# EAGLE library part 20POS-*MM-? (library con-wurth-board-header)
Wurth Elektronik WR-BHD Male Box Headers
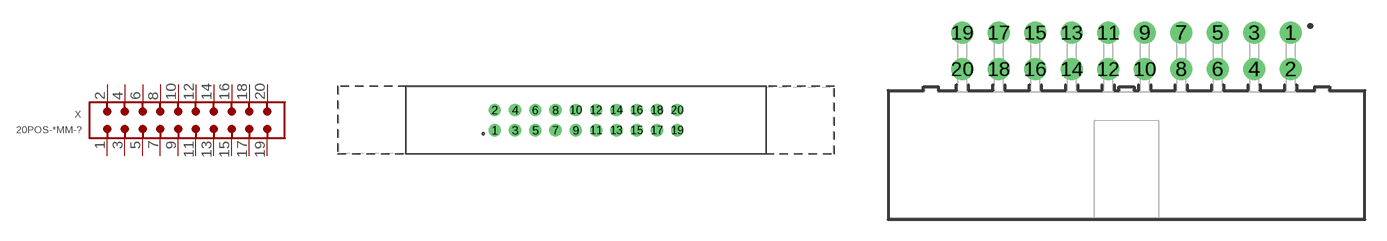
[diagram p6: symbol with the pads of 61202022821; footprints 61202022821, 612020235221]

Designator prefix X

## 20POS-2.54MM-61202022821 (CONTACT-RESISTANCE: 20mOhm; DATASHEET-URL: https://www.we-online.com/redexpert/spec/61202022821?ae; GENDER: Male; IR: 3A; LENGTH: 44.9mm; MOUNT: THT; PACKAGING: Tray; PART-NUMBER: 61202022821; PINS: 20; PITCH: 2.54 mm; TYPE: Straight; VALUE: 61202022821; WORKING-VOLTAGE: 250V(AC))  [61202022821]
1  1  pas
2  2  pas
3  3  pas
4  4  pas
5  5  pas
6  6  pas
7  7  pas
8  8  pas
9  9  pas
10  10  pas
11  11  pas
12  12  pas
13  13  pas
14  14  pas
15  15  pas
16  16  pas
17  17  pas
18  18  pas
19  19  pas
20  20  pas

## 20POS-2.54MM-612020235221 (CONTACT-RESISTANCE: 20mOhm; DATASHEET-URL: https://www.we-online.com/redexpert/spec/612020235221?ae; GENDER: Male; IR: 3A; LENGTH: 33mm; MOUNT: THT; PACKAGING: Tray; PART-NUMBER: 612020235221; PINS: 20; PITCH: 2.54 mm; TYPE: Angled; VALUE: 612020235221; WORKING-VOLTAGE: 250V(AC))  [612020235221]
Pads as for 61202022821

## 20POS-1.27MM-62702021621 (CONTACT-RESISTANCE: 20mOhm; DATASHEET-URL: https://www.we-online.com/redexpert/spec/62702021621?ae; GENDER: Male; IR: 1A; LENGTH: 19.05mm; MOUNT: THT; PART-NUMBER: 62702021621; PINS: 20; PITCH: 1.27 mm; TYPE: Straight; VALUE: 62702021621; WORKING-VOLTAGE: 50V(AC))  [62702021621]
Pads as for 61202022821

## 20POS-1.27MM-62702020621 (CONTACT-RESISTANCE: 20mOhm; DATASHEET-URL: https://www.we-online.com/redexpert/spec/62702020621?ae; GENDER: Male; IR: 1A; LENGTH: 19.05mm; MOUNT: SMT; PART-NUMBER: 62702020621; PINS: 20; PITCH: 1.27 mm; TYPE: Straight; VALUE: 62702020621; WORKING-VOLTAGE: 50V(AC))  [62702020621]
Pads as for 61202022821

## 20POS-2.54MM-61202020621 (CONTACT-RESISTANCE: 20mOhm; DATASHEET-URL: https://www.we-online.com/redexpert/spec/61202020621?ae; GENDER: Male; IR: 3A; LENGTH: 33.2mm; MOUNT: SMT; PACKAGING: Tube; PART-NUMBER: 61202020621; PINS: 20; PITCH: 2.54 mm; TYPE: Straight; VALUE: 61202020621; WORKING-VOLTAGE: 250V(AC))  [61202020621]
Pads as for 61202022821

## 20POS-2.54MM-612020235121 (CONTACT-RESISTANCE: 20mOhm; DATASHEET-URL: https://www.we-online.com/redexpert/spec/612020235121?ae; GENDER: Male; IR: 3A; LENGTH: 33mm; MOUNT: THT; PACKAGING: Tray; PART-NUMBER: 612020235121; PINS: 20; PITCH: 2.54 mm; TYPE: Straight; VALUE: 612020235121; WORKING-VOLTAGE: 250V(AC))  [612020235121]
Pads as for 61202022821

## 20POS-2.54MM-61202022121 (CONTACT-RESISTANCE: 20mOhm; DATASHEET-URL: https://www.we-online.com/redexpert/spec/61202022121?ae; GENDER: Male; IR: 3A; LENGTH: 44.9mm; MOUNT: THT; PACKAGING: Tray; PART-NUMBER: 61202022121; PINS: 20; PITCH: 2.54 mm; TYPE: Angled; VALUE: 61202022121; WORKING-VOLTAGE: 250V(AC))  [61202022121]
Pads as for 61202022821

## 20POS-2.00MM-62502021621 (CONTACT-RESISTANCE: 20mOhm; DATASHEET-URL: https://www.we-online.com/redexpert/spec/62502021621?ae; GENDER: Male; IR: 2A; LENGTH: 27.2mm; MOUNT: THT; PACKAGING: Tray; PART-NUMBER: 62502021621; PINS: 20; PITCH: 2.00 mm; TYPE: Straight; VALUE: 62502021621; WORKING-VOLTAGE: 250V(AC))  [62502021621]
Pads as for 61202022821

## 20POS-2.54MM-61202022921 (CONTACT-RESISTANCE: 20mOhm; DATASHEET-URL: https://www.we-online.com/redexpert/spec/61202022921?ae; GENDER: Male; IR: 3A; LENGTH: 44.9mm; MOUNT: THT; PACKAGING: Tray; PART-NUMBER: 61202022921; PINS: 20; PITCH: 2.54 mm; TYPE: Angled; VALUE: 61202022921; WORKING-VOLTAGE: 250V(AC))  [61202022921]
Pads as for 61202022821

## 20POS-2.00MM-62502022021 (CONTACT-RESISTANCE: 20mOhm; DATASHEET-URL: https://www.we-online.com/redexpert/spec/62502022021?ae; GENDER: Male; IR: 2A; LENGTH: 35.7mm; MOUNT: THT; PACKAGING: Tray; PART-NUMBER: 62502022021; PINS: 20; PITCH: 2.00 mm; TYPE: Straight; VALUE: 62502022021; WORKING-VOLTAGE: 250V(AC))  [62502022021]
Pads as for 61202022821

## 20POS-2.00MM-62502022323 (CONTACT-RESISTANCE: 20mOhm; DATASHEET-URL: https://www.we-online.com/redexpert/spec/62502022323?ae; GENDER: Transition; IR: 1A; LENGTH: 24.1mm; MOUNT: THT; PACKAGING: Tray; PART-NUMBER: 62502022323; PINS: 20; PITCH: 2.00 mm; TYPE: Straight; VALUE: 62502022323; WORKING-VOLTAGE: 250V(AC))  [62502022323]
Pads as for 61202022821

## 20POS-2.00MM-62502022121 (CONTACT-RESISTANCE: 20mOhm; DATASHEET-URL: https://www.we-online.com/redexpert/spec/62502022121?ae; GENDER: Male; IR: 2A; LENGTH: 35.7mm; MOUNT: THT; PACKAGING: Tray; PART-NUMBER: 62502022121; PINS: 20; PITCH: 2.00 mm; TYPE: Angled; VALUE: 62502022121; WORKING-VOLTAGE: 250V(AC))  [62502022121]
Pads as for 61202022821

## 20POS-2.54MM-61202021721 (CONTACT-RESISTANCE: 20mOhm; DATASHEET-URL: https://www.we-online.com/redexpert/spec/61202021721?ae; GENDER: Male; IR: 3A; LENGTH: 38.14mm; MOUNT: THT; PACKAGING: Tray; PART-NUMBER: 61202021721; PINS: 20; PITCH: 2.54 mm; TYPE: Angled; VALUE: 61202021721; WORKING-VOLTAGE: 250V(AC))  [61202021721]
Pads as for 61202022821

## 20POS-2.54MM-61202021621 (CONTACT-RESISTANCE: 20mOhm; DATASHEET-URL: https://www.we-online.com/redexpert/spec/61202021621?ae; GENDER: Male; IR: 3A; LENGTH: 33.06mm; MOUNT: THT; PACKAGING: Tray; PART-NUMBER: 61202021621; PINS: 20; PITCH: 2.54 mm; TYPE: Straight; VALUE: 61202021621; WORKING-VOLTAGE: 250V(AC))  [61202021621]
Pads as for 61202022821

## 20POS-2.00MM-62502021721 (CONTACT-RESISTANCE: 20mOhm; DATASHEET-URL: https://www.we-online.com/redexpert/spec/62502021721?ae; GENDER: Male; IR: 2A; LENGTH: 27.25mm; MOUNT: THT; PACKAGING: Tray; PART-NUMBER: 62502021721; PINS: 20; PITCH: 2.00 mm; TYPE: Angled; VALUE: 62502021721; WORKING-VOLTAGE: 250V(AC))  [62502021721]
Pads as for 61202022821

## 20POS-2.54MM-61202022021 (CONTACT-RESISTANCE: 20mOhm; DATASHEET-URL: https://www.we-online.com/redexpert/spec/61202022021?ae; GENDER: Male; IR: 3A; LENGTH: 44.9mm; MOUNT: THT; PACKAGING: Tray; PART-NUMBER: 61202022021; PINS: 20; PITCH: 2.54 mm; TYPE: Straight; VALUE: 61202022021; WORKING-VOLTAGE: 250V(AC))  [61202022021]
Pads as for 61202022821

## 20POS-2.54MM-61202022323 (CONTACT-RESISTANCE: 20mOhm; DATASHEET-URL: https://www.we-online.com/redexpert/spec/61202022323?ae; GENDER: Transition; IR: 1A; LENGTH: 30.85mm; MOUNT: THT; PACKAGING: Tray; PART-NUMBER: 61202022323; PINS: 20; PITCH: 2.54 mm; TYPE: Straight; VALUE: 61202022323; WORKING-VOLTAGE: 250V(AC))  [61202022323]
Pads as for 61202022821

## 20POS-1.27MM-62702021721 (CONTACT-RESISTANCE: 20mOhm; DATASHEET-URL: https://www.we-online.com/redexpert/spec/62702021721?ae; GENDER: Male; IR: 1A; LENGTH: 19.05mm; MOUNT: THT; PART-NUMBER: 62702021721; PINS: 20; PITCH: 1.27 mm; TYPE: Angled; VALUE: 62702021721; WORKING-VOLTAGE: 50V(AC))  [62702021721]
Pads as for 61202022821

## 20POS-1.27MM-62732020621 (CONTACT-RESISTANCE: 20mOhm; DATASHEET-URL: https://www.we-online.com/redexpert/spec/62732020621?ae; GENDER: Male; IR: 1A; LENGTH: 19.05mm; MOUNT: SMT; PART-NUMBER: 62732020621; PINS: 20; PITCH: 1.27 mm; TYPE: Straight; VALUE: 62732020621; WORKING-VOLTAGE: 50V(AC))  [62732020621]
Pads as for 61202022821

## 20POS-2.00MM-62532020621 (CONTACT-RESISTANCE: 20mOhm; DATASHEET-URL: https://www.we-online.com/redexpert/spec/62532020621?ae; GENDER: Male; IR: 2A; LENGTH: 27.25mm; MOUNT: SMT; PACKAGING: Tape and Reel with Cap; PART-NUMBER: 62532020621; PINS: 20; PITCH: 2.00 mm; TYPE: Straight; VALUE: 62532020621; WORKING-VOLTAGE: 250V(AC))  [62532020621]
Pads as for 61202022821

## 20POS-2.54MM-61232020621 (CONTACT-RESISTANCE: 20mOhm; DATASHEET-URL: https://www.we-online.com/redexpert/spec/61232020621?ae; GENDER: Male; IR: 3A; LENGTH: 33.05mm; MOUNT: SMT; PACKAGING: Tape and Reel with Cap; PART-NUMBER: 61232020621; PINS: 20; PITCH: 2.54 mm; TYPE: Straight; VALUE: 61232020621; WORKING-VOLTAGE: 250V(AC))  [61232020621]
Pads as for 61202022821

## Footprint 61202022821 (pad centres in mm)
WR-BHD 2.54 mm Male Box Header with long lever,20 Pins
drill 1.02: 1 -11.43,-1.27; 2 -11.43,1.27; 3 -8.89,-1.27; 4 -8.89,1.27; 5 -6.35,-1.27; 6 -6.35,1.27; 7 -3.81,-1.27; 8 -3.81,1.27; 9 -1.27,-1.27; 10 -1.27,1.27; 11 1.27,-1.27; 12 1.27,1.27; 13 3.81,-1.27; 14 3.81,1.27; 15 6.35,-1.27; 16 6.35,1.27; 17 8.89,-1.27; 18 8.89,1.27; 19 11.43,-1.27; 20 11.43,1.27

## Footprint 612020235221 (pad centres in mm)
WR-BHD 2.54 mm Male Angled Box Header High Temperature, 20 Pins
drill 1.02: 1 11.43,8.54; 2 11.43,6; 3 8.89,8.54; 4 8.89,6; 5 6.35,8.54; 6 6.35,6; 7 3.81,8.54; 8 3.81,6; 9 1.27,8.54; 10 1.27,6; 11 -1.27,8.54; 12 -1.27,6; 13 -3.81,8.54; 14 -3.81,6; 15 -6.35,8.54; 16 -6.35,6; 17 -8.89,8.54; 18 -8.89,6; 19 -11.43,8.54; 20 -11.43,6

## Footprint 62702021621 (pad centres in mm)
WR-BHD 1.27mm Male THT Box Header Straight, 20Pins
drill 0.7 pad 1.05: 1 -5.715,-0.635; 2 -5.715,0.635; 3 -4.445,-0.635; 4 -4.445,0.635; 5 -3.175,-0.635; 6 -3.175,0.635; 7 -1.905,-0.635; 8 -1.905,0.635; 9 -0.635,-0.635; 10 -0.635,0.635; 11 0.635,-0.635; 12 0.635,0.635; 13 1.905,-0.635; 14 1.905,0.635; 15 3.175,-0.635; 16 3.175,0.635; 17 4.445,-0.635; 18 4.445,0.635; 19 5.715,-0.635; 20 5.715,0.635

## Footprint 62702020621 (pad centres in mm)
WR-BHD 1.27 mm Male SMT Box Header Pitch: 1.27mm, 20pins, SMT
smd 0.65 x 2.76: 1 -5.715,-2.02; 2 -5.715,2.02; 3 -4.445,-2.02; 4 -4.445,2.02; 5 -3.175,-2.02; 6 -3.175,2.02; 7 -1.905,-2.02; 8 -1.905,2.02; 9 -0.635,-2.02; 10 -0.635,2.02; 11 0.635,-2.02; 12 0.635,2.02; 13 1.905,-2.02; 14 1.905,2.02; 15 3.175,-2.02; 16 3.175,2.02; 17 4.445,-2.02; 18 4.445,2.02; 19 5.715,-2.02; 20 5.715,2.02

## Footprint 61202020621 (pad centres in mm)
WR-BHD 2.54 mm Male SMT Box Header,20 pins
smd 1 x 3.75: 1 -11.43,-3.375; 2 -11.43,3.375; 3 -8.89,-3.375; 4 -8.89,3.375; 5 -6.35,-3.375; 6 -6.35,3.375; 7 -3.81,-3.375; 8 -3.81,3.375; 9 -1.27,-3.375; 10 -1.27,3.375; 11 1.27,-3.375; 12 1.27,3.375; 13 3.81,-3.375; 14 3.81,3.375; 15 6.35,-3.375; 16 6.35,3.375; 17 8.89,-3.375; 18 8.89,3.375; 19 11.43,-3.375; 20 11.43,3.375

## Footprint 612020235121 (pad centres in mm)
WR-BHD 2.54 mm Male Box Header High Temperature, 20 Pins
drill 1.02: 1 -11.43,-1.27; 2 -11.43,1.27; 3 -8.89,-1.27; 4 -8.89,1.27; 5 -6.35,-1.27; 6 -6.35,1.27; 7 -3.81,-1.27; 8 -3.81,1.27; 9 -1.27,-1.27; 10 -1.27,1.27; 11 1.27,-1.27; 12 1.27,1.27; 13 3.81,-1.27; 14 3.81,1.27; 15 6.35,-1.27; 16 6.35,1.27; 17 8.89,-1.27; 18 8.89,1.27; 19 11.43,-1.27; 20 11.43,1.27

## Footprint 61202022121 (pad centres in mm)
WR-BHD 2.54 mm Male Angled Box Header with short lever,, 20 Pins
drill 1.02: 1 11.43,7.36; 2 11.43,4.82; 3 8.89,7.36; 4 8.89,4.82; 5 6.35,7.36; 6 6.35,4.82; 7 3.81,7.36; 8 3.81,4.82; 9 1.27,7.36; 10 1.27,4.82; 11 -1.27,7.36; 12 -1.27,4.82; 13 -3.81,7.36; 14 -3.81,4.82; 15 -6.35,7.36; 16 -6.35,4.82; 17 -8.89,7.36; 18 -8.89,4.82; 19 -11.43,7.36; 20 -11.43,4.82

## Footprint 62502021621 (pad centres in mm)
WR-BHD 2.00 mm Male Box Headerr, 20 pins
drill 0.8: 1 -9,-1; 2 -9,1; 3 -7,-1; 4 -7,1; 5 -5,-1; 6 -5,1; 7 -3,-1; 8 -3,1; 9 -1,-1; 10 -1,1; 11 1,-1; 12 1,1; 13 3,-1; 14 3,1; 15 5,-1; 16 5,1; 17 7,-1; 18 7,1; 19 9,-1; 20 9,1

## Footprint 61202022921 (pad centres in mm)
WR-BHD 2.54 mm Male Angled Box Header with long lever, 20 Pins
drill 1.02: 1 11.43,7.36; 2 11.43,4.82; 3 8.89,7.36; 4 8.89,4.82; 5 6.35,7.36; 6 6.35,4.82; 7 3.81,7.36; 8 3.81,4.82; 9 1.27,7.36; 10 1.27,4.82; 11 -1.27,7.36; 12 -1.27,4.82; 13 -3.81,7.36; 14 -3.81,4.82; 15 -6.35,7.36; 16 -6.35,4.82; 17 -8.89,7.36; 18 -8.89,4.82; 19 -11.43,7.36; 20 -11.43,4.82

## Footprint 62502022021 (pad centres in mm)
WR-BHD 2.00 mm Male Box Header with Lever,20 pins
drill 0.8: 1 -9,-1; 2 -9,1; 3 -7,-1; 4 -7,1; 5 -5,-1; 6 -5,1; 7 -3,-1; 8 -3,1; 9 -1,-1; 10 -1,1; 11 1,-1; 12 1,1; 13 3,-1; 14 3,1; 15 5,-1; 16 5,1; 17 7,-1; 18 7,1; 19 9,-1; 20 9,1

## Footprint 62502022323 (pad centres in mm)
WR-BHD 2.00 mm Board to Cable Transition Connector,20 pins
drill 1: 1 -9,-1; 2 -9,1; 3 -7,-1; 4 -7,1; 5 -5,-1; 6 -5,1; 7 -3,-1; 8 -3,1; 9 -1,-1; 10 -1,1; 11 1,-1; 12 1,1; 13 3,-1; 14 3,1; 15 5,-1; 16 5,1; 17 7,-1; 18 7,1; 19 9,-1; 20 9,1

## Footprint 62502022121 (pad centres in mm)
WR-BHD 2.00 mm Male Angled Box Header w. Lever,20 pins
drill 0.8: 1 9,3.4; 2 9,1.4; 3 7,3.4; 4 7,1.4; 5 5,3.4; 6 5,1.4; 7 3,3.4; 8 3,1.4; 9 1,3.4; 10 1,1.4; 11 -1,3.4; 12 -1,1.4; 13 -3,3.4; 14 -3,1.4; 15 -5,3.4; 16 -5,1.4; 17 -7,3.4; 18 -7,1.4; 19 -9,3.4; 20 -9,1.4

## Footprint 61202021721 (pad centres in mm)
WR-BHD 2.54 mm Male Angled Box Header, 20 Pins
drill 1.1: 1 11.43,8.805; 2 11.43,6.265; 3 8.89,8.805; 4 8.89,6.265; 5 6.35,8.805; 6 6.35,6.265; 7 3.81,8.805; 8 3.81,6.265; 9 1.27,8.805; 10 1.27,6.265; 11 -1.27,8.805; 12 -1.27,6.265; 13 -3.81,8.805; 14 -3.81,6.265; 15 -6.35,8.805; 16 -6.35,6.265; 17 -8.89,8.805; 18 -8.89,6.265; 19 -11.43,8.805; 20 -11.43,6.265

## Footprint 61202021621 (pad centres in mm)
WR-BHD 2.54 mm Male Box Header, 20 Pins
drill 1.1: 1 -11.43,-1.27; 2 -11.43,1.27; 3 -8.89,-1.27; 4 -8.89,1.27; 5 -6.35,-1.27; 6 -6.35,1.27; 7 -3.81,-1.27; 8 -3.81,1.27; 9 -1.27,-1.27; 10 -1.27,1.27; 11 1.27,-1.27; 12 1.27,1.27; 13 3.81,-1.27; 14 3.81,1.27; 15 6.35,-1.27; 16 6.35,1.27; 17 8.89,-1.27; 18 8.89,1.27; 19 11.43,-1.27; 20 11.43,1.27

## Footprint 62502021721 (pad centres in mm)
WR-BHD 2.00 mm Male Angled Box Header,20 pins
drill 0.8: 1 9,5.55; 2 9,3.55; 3 7,5.55; 4 7,3.55; 5 5,5.55; 6 5,3.55; 7 3,5.55; 8 3,3.55; 9 1,5.55; 10 1,3.55; 11 -1,5.55; 12 -1,3.55; 13 -3,5.55; 14 -3,3.55; 15 -5,5.55; 16 -5,3.55; 17 -7,5.55; 18 -7,3.55; 19 -9,5.55; 20 -9,3.55

## Footprint 61202022021 (pad centres in mm)
WR-BHD 2.54 mm Male Box Header with short lever,20 Pins
drill 1.02: 1 -11.43,-1.27; 2 -11.43,1.27; 3 -8.89,-1.27; 4 -8.89,1.27; 5 -6.35,-1.27; 6 -6.35,1.27; 7 -3.81,-1.27; 8 -3.81,1.27; 9 -1.27,-1.27; 10 -1.27,1.27; 11 1.27,-1.27; 12 1.27,1.27; 13 3.81,-1.27; 14 3.81,1.27; 15 6.35,-1.27; 16 6.35,1.27; 17 8.89,-1.27; 18 8.89,1.27; 19 11.43,-1.27; 20 11.43,1.27

## Footprint 61202022323 (pad centres in mm)
WR-BHD 2.54mm Board to Cable Transition Connector, 20 Pins
drill 1.02: 1 -11.43,-1.27; 2 -11.43,1.27; 3 -8.89,-1.27; 4 -8.89,1.27; 5 -6.35,-1.27; 6 -6.35,1.27; 7 -3.81,-1.27; 8 -3.81,1.27; 9 -1.27,-1.27; 10 -1.27,1.27; 11 1.27,-1.27; 12 1.27,1.27; 13 3.81,-1.27; 14 3.81,1.27; 15 6.35,-1.27; 16 6.35,1.27; 17 8.89,-1.27; 18 8.89,1.27; 19 11.43,-1.27; 20 11.43,1.27

## Footprint 62702021721 (pad centres in mm)
WR-BHD 1,27mm Male THT Box Header Right angle, 20Pins
drill 0.7 pad 1.05: 1 5.715,4.72; 2 5.715,3.45; 3 4.445,4.72; 4 4.445,3.45; 5 3.175,4.72; 6 3.175,3.45; 7 1.905,4.72; 8 1.905,3.45; 9 0.635,4.72; 10 0.635,3.45; 11 -0.635,4.72; 12 -0.635,3.45; 13 -1.905,4.72; 14 -1.905,3.45; 15 -3.175,4.72; 16 -3.175,3.45; 17 -4.445,4.72; 18 -4.445,3.45; 19 -5.715,4.72; 20 -5.715,3.45

## Footprint 62732020621 (pad centres in mm)
WR-BHD 1.27 mm Male SMT Box Header Pitch: 1.27mm, 20pins, SMT
smd 0.65 x 2.76: 1 -5.715,-2.02; 2 -5.715,2.02; 3 -4.445,-2.02; 4 -4.445,2.02; 5 -3.175,-2.02; 6 -3.175,2.02; 7 -1.905,-2.02; 8 -1.905,2.02; 9 -0.635,-2.02; 10 -0.635,2.02; 11 0.635,-2.02; 12 0.635,2.02; 13 1.905,-2.02; 14 1.905,2.02; 15 3.175,-2.02; 16 3.175,2.02; 17 4.445,-2.02; 18 4.445,2.02; 19 5.715,-2.02; 20 5.715,2.02

## Footprint 62532020621 (pad centres in mm)
WR-BHD 2.00 mm Male SMT Box Header,20 pins
smd 1 x 2.85: 1 -9,-2.425; 2 -9,2.425; 3 -7,-2.425; 4 -7,2.425; 5 -5,-2.425; 6 -5,2.425; 7 -3,-2.425; 8 -3,2.425; 9 -1,-2.425; 10 -1,2.425; 11 1,-2.425; 12 1,2.425; 13 3,-2.425; 14 3,2.425; 15 5,-2.425; 16 5,2.425; 17 7,-2.425; 18 7,2.425; 19 9,-2.425; 20 9,2.425

## Footprint 61232020621 (pad centres in mm)
WR-BHD 2.54 mm Male SMT Box Header 2.54 mm, SMT, 20Pins
smd 1.2 x 4.75: 1 -11.43,-2.875; 2 -11.43,2.875; 3 -8.89,-2.875; 4 -8.89,2.875; 5 -6.35,-2.875; 6 -6.35,2.875; 7 -3.81,-2.875; 8 -3.81,2.875; 9 -1.27,-2.875; 10 -1.27,2.875; 11 1.27,-2.875; 12 1.27,2.875; 13 3.81,-2.875; 14 3.81,2.875; 15 6.35,-2.875; 16 6.35,2.875; 17 8.89,-2.875; 18 8.89,2.875; 19 11.43,-2.875; 20 11.43,2.875